# Altium schematic symbol library TPS2660.SchLib: 2 symbols
Pins are listed as number, name and electrical type; pins without a type are passive.

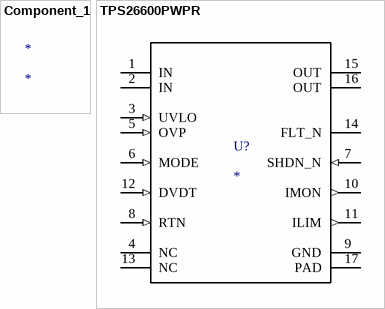
[diagram p0: symbols Component_1 to TPS26600PWPR]

## Component_1
designator *

## TPS26600PWPR
designator U?
Imported; PartNumber: TPS26600PWPR; Manufacturer: Texas Instruments; RefDes: RefDes; TYPE: TYPE; Value: Value
footprint PWP0016H_N
pins: 1 IN (power), 2 IN (power), 3 UVLO (in), 4 NC, 5 OVP (in), 6 MODE (in), 7 SHDN_N (in), 8 RTN (in), 9 GND (power), 10 IMON (out), 11 ILIM (out), 12 DVDT (in), 13 NC, 14 FLT_N (oc), 15 OUT (power), 16 OUT (power), 17 PAD (power)